# EAGLE library part PCI_36 (library EW_Connectors)
PCI BOARD SHORT
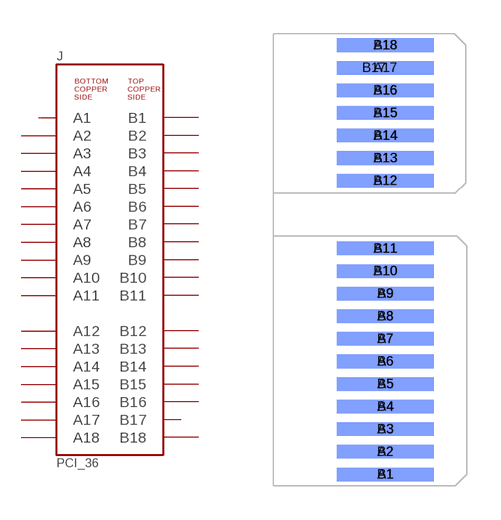
[diagram p8: symbol with the pads of PCI_36_EDGE; footprint PCI_36_EDGE]

Designator prefix J

## PCI_36  [PCI_36_EDGE]
A1  A1
A2  A2
A3  A3
A4  A4
A5  A5
A6  A6
A7  A7
A8  A8
A9  A9
A10  A10
A11  A11
A12  A12
A13  A13
A14  A14
A15  A15
A16  A16
A17  A17
A18  A18
B1  B1
B2  B2
B3  B3
B4  B4
B5  B5
B6  B6
B7  B7
B8  B8
B9  B9
B10  B10
B11  B11
B12  B12
B13  B13
B14  B14
B15  B15
B16  B16
B17  B17
B18  B18

## Footprint PCI_36_EDGE (pad centres in mm)
PCI BOARD SHORT
smd 4.3 x 0.6 bottom: A1 -3.6,0; A2 -3.6,1; A3 -3.6,2; A4 -3.6,3; A5 -3.6,4; A6 -3.6,5; A7 -3.6,6; A8 -3.6,7; A9 -3.6,8; A10 -3.6,9; A11 -3.6,10; A12 -3.6,13; A13 -3.6,14; A14 -3.6,15; A15 -3.6,16; A16 -3.6,17; A17 -3.6,18; A18 -3.6,19
smd 4.3 x 0.6: B1 -3.6,0; B2 -3.6,1; B3 -3.6,2; B4 -3.6,3; B5 -3.6,4; B6 -3.6,5; B7 -3.6,6; B8 -3.6,7; B9 -3.6,8; B10 -3.6,9; B11 -3.6,10; B12 -3.6,13; B13 -3.6,14; B14 -3.6,15; B15 -3.6,16; B16 -3.6,17; B18 -3.6,19
smd 3.3 x 0.6: B17 -4.1,18